# EAGLE library part CR1510 (library _mtvl.power)
CR1510 Off-Line Digital Green-Mode PWM Controller with Integrated Power BJT https://datasheet.lcsc.com/szlcsc/1909091135_Dialog-Semiconductor-CR1510-06_C424975.pdf
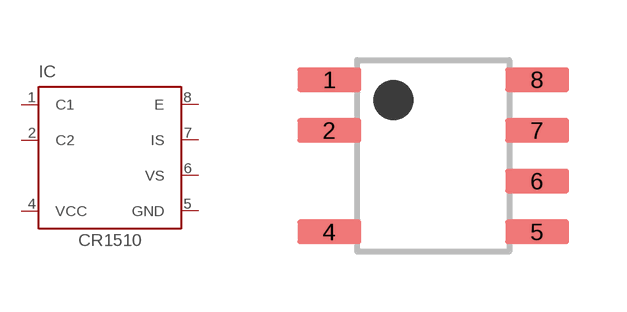
[diagram p15: symbol with the pads of SOP-7; footprint SOP-7]

Designator prefix IC

## CR1510  [SOP-7]
1  C1
2  C2
4  VCC
5  GND
6  VS
7  IS
8  E

## Footprint SOP-7 (pad centres in mm)
smd 1.6 x 0.61: 1 -2.6,1.905; 2 -2.6,0.635; 4 -2.6,-1.905; 5 2.6,-1.905; 6 2.6,-0.635; 7 2.6,0.635; 8 2.6,1.905